# Altium schematic symbol library MCU_8BIT.SchLib: 1 symbol
Pins are listed as number, name and electrical type; pins without a type are passive.

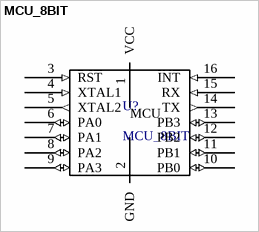
[diagram p0: symbol MCU_8BIT]

## MCU_8BIT
designator U?
8-bit microcontroller
pins: 1 VCC (power), 2 GND (power), 3 RST (in), 4 XTAL1 (in), 5 XTAL2 (out), 6 PA0 (io), 7 PA1 (io), 8 PA2 (io), 9 PA3 (io), 10 PB0 (io), 11 PB1 (io), 12 PB2 (io), 13 PB3 (io), 14 TX (out), 15 RX (in), 16 INT (in)
text: MCU